# Altium footprint library 六脚自锁开关.PcbLib: 1 footprints
Each footprint in its own frame and in the unit in brackets; x right, y up, seen from the top. Pads: shape width x height; smd on the part's side, far side on the other; paste and mask are expansions set on the pad; w line width, h text height; cw(c..) or ccw(c..) is an arc to the next point about the centre after c.
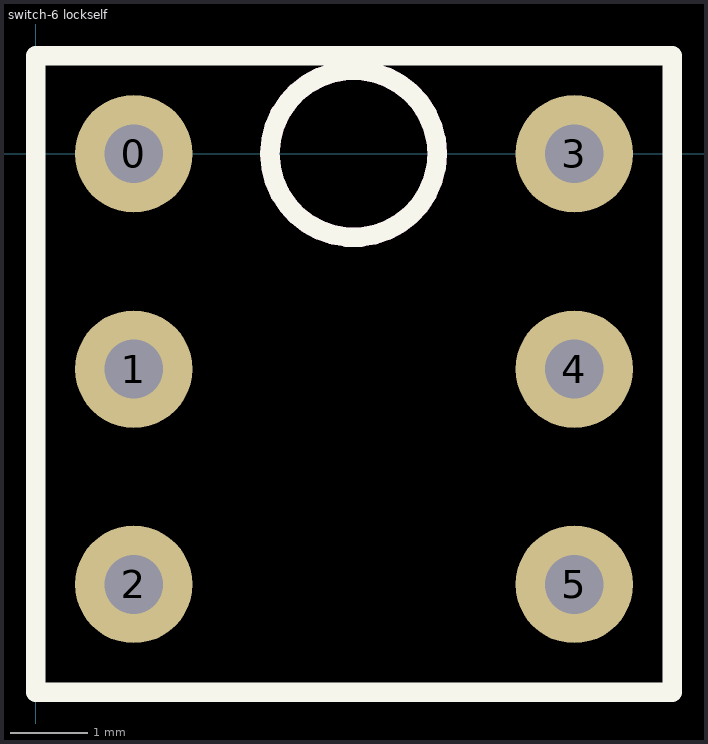
[diagram p0: the footprint, top view; thin cyan lines are the x and y axes]

## switch-6 lockself [mil]
pads (6):
  round 60 hole 30: 0(50,0) 1(50,-110) 2(50,-220) 3(275,0) 4(275,-110) 5(275,-220)
Top Overlay:
  lines w10: 0,-275 325,-275 325,50 0,50 0,-275
Top Overlay keep-out:
  circle w10: c162.28,0 r42.72